# Altium schematic symbol library IO_expanders.SchLib: 1 symbol
Pins are listed as number, name and electrical type; pins without a type are passive.

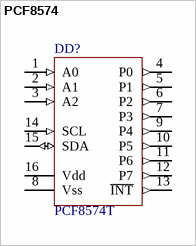
[diagram p0: symbol PCF8574]

## PCF8574
designator DD?, comment PCF8574T
Remote 8-bit I/O expander for  I2C-bus, SO16 package
footprint SOIC127P1030X265-16N (SOIC 16-Leads, Body 10,30x7,50mm, Pitch 1,27mm, IPC Medium Density)
pins: 1 A0 (in), 2 A1 (in), 3 A2 (in), 4 P0 (out), 5 P1 (out), 6 P2 (out), 7 P3 (out), 8 Vss (power), 9 P4 (out), 10 P5 (out), 11 P6 (out), 12 P7 (out), 13 ~{INT} (out), 14 SCL (in), 15 SDA (io), 16 Vdd (power)